# EAGLE library part 14-56-2064 (library EXCISS)
14-56-2064 2.54mm Pitch SL Insulation Displacement Connector Assembly, Female, Single Row, Version G, Positive Lock, Wire Size 26 AWG, 0.38µm Gold (Au), 6 Circuits Links Datasheet <http://www.molex.com/webdocs/datasheets/pdf/en-us//0014562064_RB_CBL_WR_TRP_CONN.pdf> Product website <http://www.molex.com/molex/products/datasheet.jsp?part=active/0014562064_RB_CBL_WR_TRP_CONN.xml>
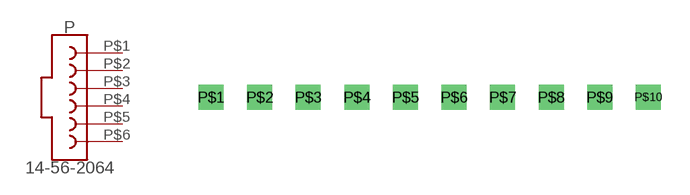
[diagram p29: symbol with the pads of DUMMY; footprint DUMMY]

Designator prefix P

## 14-56-2064  [DUMMY]
P$1  1  pas
P$2  2  pas
P$3  3  pas
P$4  4  pas
P$5  5  pas
P$6  6  pas

## Footprint DUMMY (pad centres in mm)
drill 0.8 square: P$1 0,0; P$2 2.54,0; P$3 5.08,0; P$4 7.62,0; P$5 10.16,0; P$6 12.7,0; P$7 15.24,0; P$8 17.78,0; P$9 20.32,0; P$10 22.86,0